# Altium footprint library 1N914BWT.PcbLib: 1 footprints
Each footprint in its own frame and in the unit in brackets; x right, y up, seen from the top. Pads: shape width x height; smd on the part's side, far side on the other; paste and mask are expansions set on the pad; w line width, h text height; cw(c..) or ccw(c..) is an arc to the next point about the centre after c.
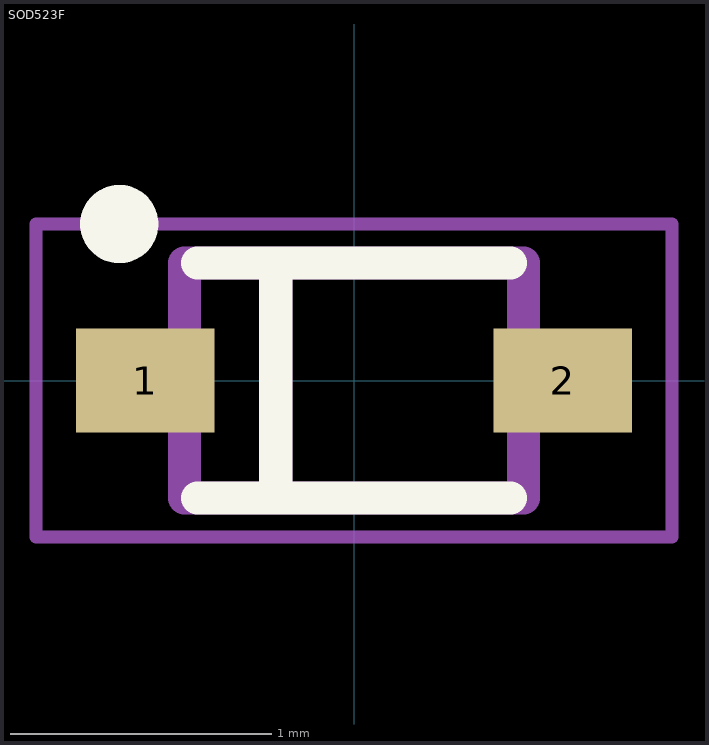
[diagram p0: the footprint, top view; thin cyan lines are the x and y axes]

## SOD523F [mm]
pads (2):
  rect 0.53x0.4 smd: 1(-0.8,0) 2(0.8,0)
Top Overlay:
  circle w0.2: c-0.9,0.6 r0.05
  lines w0.127: -0.6,-0.45 -0.3,-0.45 ; -0.6,0.45 -0.3,0.45 ; 0.6,-0.45 -0.3,-0.45 ; 0.6,0.45 -0.3,0.45 ; -0.3,-0.45 -0.3,0.45
Mechanical 4:
  lines w0.127: -0.65,-0.45 -0.3,-0.45 ; -0.65,-0.45 -0.65,0.45 ; -0.65,-0.45 -0.3,-0.45 ; -0.65,-0.45 -0.65,0.45 ; -0.65,0.45 -0.3,0.45 ; -0.65,0.45 -0.3,0.45 ; -0.3,-0.45 -0.3,0.45 ; -0.3,-0.45 0.65,-0.45 ; -0.3,-0.45 -0.3,0.45 ; -0.3,-0.45 0.65,-0.45 ; -0.3,0.45 0.65,0.45 ; -0.3,0.45 0.65,0.45 ; 0.65,-0.45 0.65,0.45 ; 0.65,-0.45 0.65,0.45
Mechanical 16:
  lines w0.05: -1.22,-0.6 -1.22,0.6 1.22,0.6 1.22,-0.6 -1.22,-0.6
3D body "SOD523F.step": height 0.7, standoff 0, extent -0.85,-0.45 0.85,0.45